# EAGLE library part OLIMEX_STM32_H103 (library paparazzi)
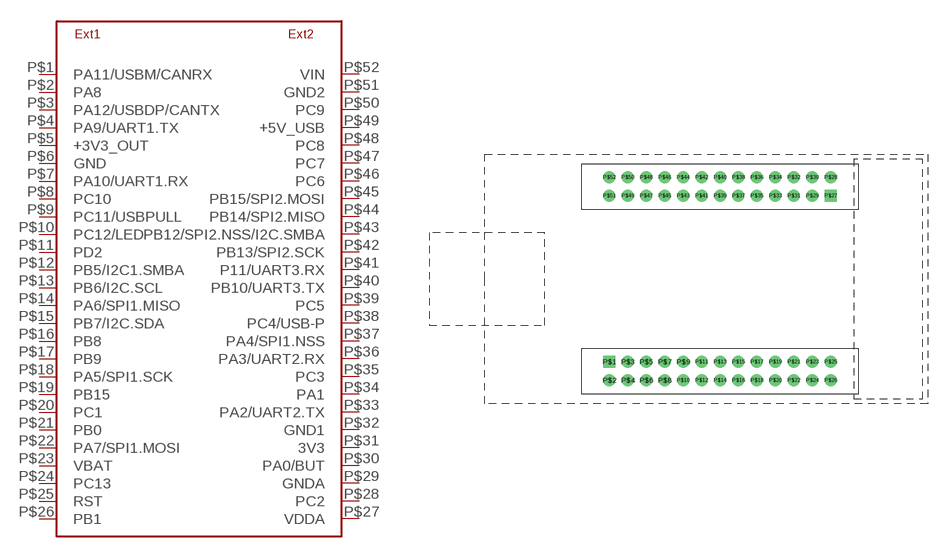
[diagram p59: symbol with the pads of OLIMEX_STM32_H103; footprint OLIMEX_STM32_H103]

Designator prefix -

## OLIMEX_STM32_H103  [OLIMEX_STM32_H103]
P$1  PA11/USBM/CANRX
P$2  PA8
P$3  PA12/USBDP/CANTX
P$4  PA9/UART1.TX
P$5  +3V3_OUT
P$6  GND
P$7  PA10/UART1.RX
P$8  PC10
P$9  PC11/USBPULL
P$10  PC12/LED
P$11  PD2
P$12  PB5/I2C1.SMBA
P$13  PB6/I2C.SCL
P$14  PA6/SPI1.MISO
P$15  PB7/I2C.SDA
P$16  PB8
P$17  PB9
P$18  PA5/SPI1.SCK
P$19  PB15
P$20  PC1
P$21  PB0
P$22  PA7/SPI1.MOSI
P$23  VBAT
P$24  PC13
P$25  RST
P$26  PB1
P$27  VDDA
P$28  PC2
P$29  GNDA
P$30  PA0/BUT
P$31  3V3
P$32  GND1
P$33  PA2/UART2.TX
P$34  PA1
P$35  PC3
P$36  PA3/UART2.RX
P$37  PA4/SPI1.NSS
P$38  PC4/USB-P
P$39  PC5
P$40  PB10/UART3.TX
P$41  P11/UART3.RX
P$42  PB13/SPI2.SCK
P$43  PB12/SPI2.NSS/I2C.SMBA
P$44  PB14/SPI2.MISO
P$45  PB15/SPI2.MOSI
P$46  PC6
P$47  PC7
P$48  PC8
P$49  +5V_USB
P$50  PC9
P$51  GND2
P$52  VIN

## Footprint OLIMEX_STM32_H103 (pad centres in mm)
Olimex STM32-H103 dev board
drill 1.1 square: P$1 -15.24,-11.43; P$27 15.24,11.43
drill 1.1 round: P$2 -15.24,-13.97; P$3 -12.7,-11.43; P$4 -12.7,-13.97; P$5 -10.16,-11.43; P$6 -10.16,-13.97; P$7 -7.62,-11.43; P$8 -7.62,-13.97; P$9 -5.08,-11.43; P$10 -5.08,-13.97; P$11 -2.54,-11.43; P$12 -2.54,-13.97; P$13 0,-11.43; P$14 0,-13.97; P$15 2.54,-11.43; P$16 2.54,-13.97; P$17 5.08,-11.43; P$18 5.08,-13.97; P$19 7.62,-11.43; P$20 7.62,-13.97; P$21 10.16,-11.43; P$22 10.16,-13.97; P$23 12.7,-11.43; P$24 12.7,-13.97; P$25 15.24,-11.43; P$26 15.24,-13.97; P$28 15.24,13.97; P$29 12.7,11.43; P$30 12.7,13.97; P$31 10.16,11.43; P$32 10.16,13.97; P$33 7.62,11.43; P$34 7.62,13.97; P$35 5.08,11.43; P$36 5.08,13.97; P$37 2.54,11.43; P$38 2.54,13.97; P$39 0,11.43; P$40 0,13.97; P$41 -2.54,11.43; P$42 -2.54,13.97; P$43 -5.08,11.43; P$44 -5.08,13.97; P$45 -7.62,11.43; P$46 -7.62,13.97; P$47 -10.16,11.43; P$48 -10.16,13.97; P$49 -12.7,11.43; P$50 -12.7,13.97; P$51 -15.24,11.43; P$52 -15.24,13.97